# Altium footprint library PQFN.PcbLib: 12 footprints
Each footprint in its own frame and in the unit in brackets; x right, y up, seen from the top. Pads: shape width x height; smd on the part's side, far side on the other; paste and mask are expansions set on the pad; w line width, h text height; cw(c..) or ccw(c..) is an arc to the next point about the centre after c.
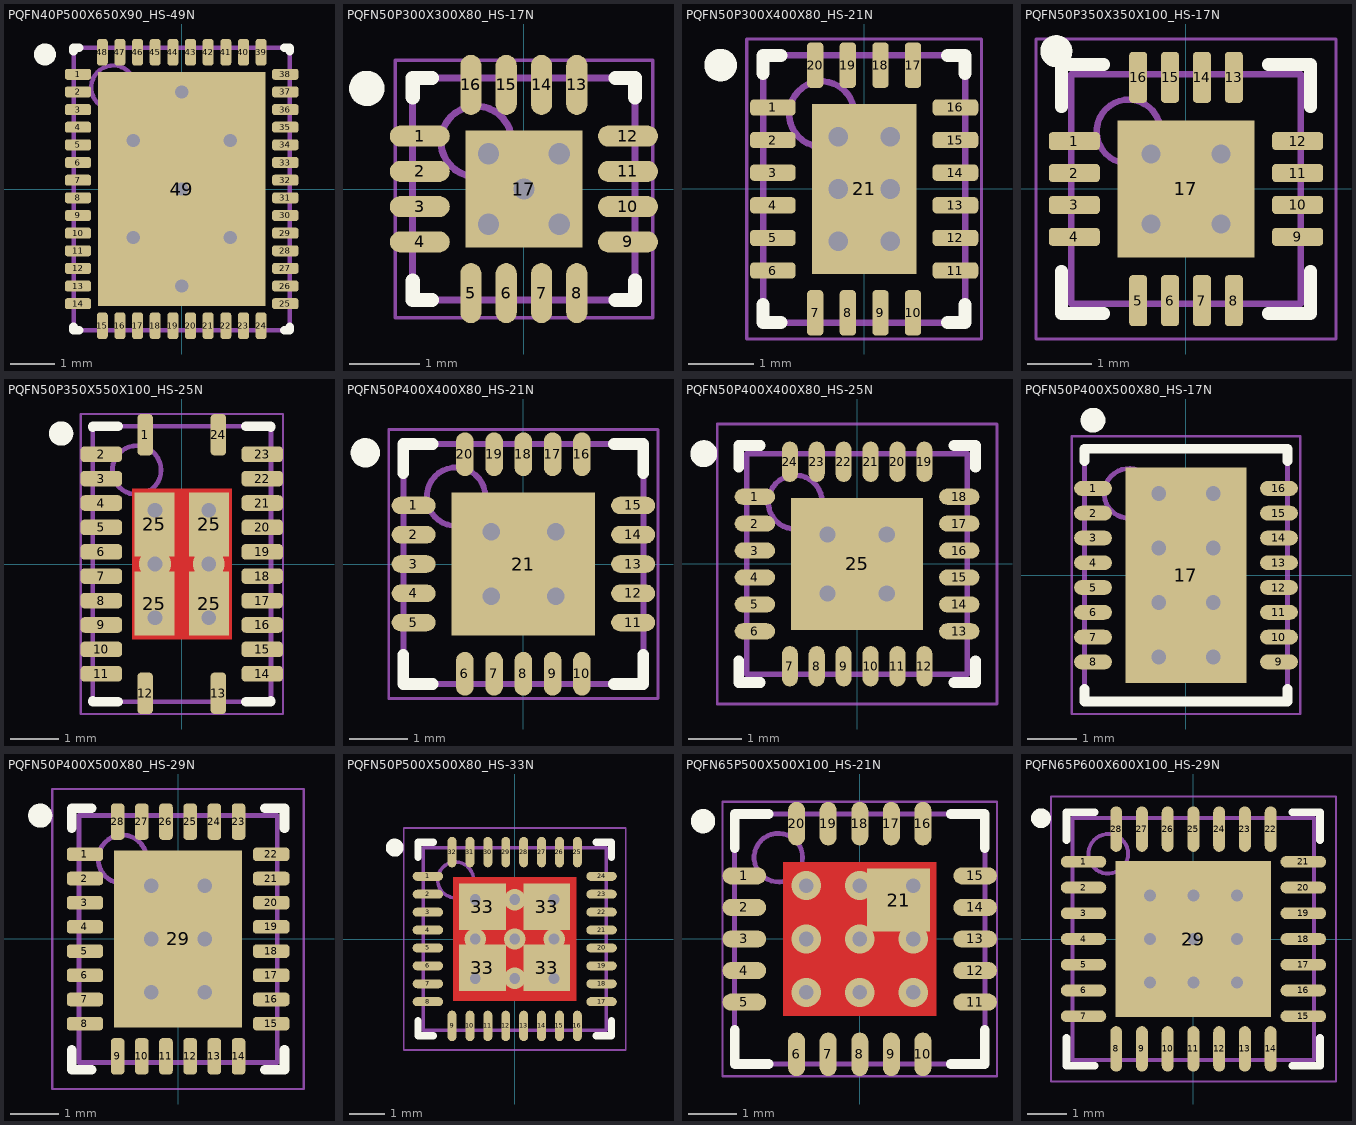
[diagram p0: the footprints below, top view; thin cyan lines are the x and y axes]

## PQFN40P500X650X90_HS-49N [mm] "PQFN, 48-Leads, Body 5,00x6,50mm, Pitch 0,40mm, Thermal Pad 3,80x5,30mm, IPC Medium Density"
height 0.9
pads (49):
  rrect50% 0.6x0.25 smd: 1(-2.35,2.6) 2(-2.35,2.2) 3(-2.35,1.8) 4(-2.35,1.4) 5(-2.35,1) 6(-2.35,0.6) 7(-2.35,0.2) 8(-2.35,-0.2) 9(-2.35,-0.6) 10(-2.35,-1) 11(-2.35,-1.4) 12(-2.35,-1.8) 13(-2.35,-2.2) 14(-2.35,-2.6) 25(2.35,-2.6) 26(2.35,-2.2) 27(2.35,-1.8) 28(2.35,-1.4) 29(2.35,-1) 30(2.35,-0.6) 31(2.35,-0.2) 32(2.35,0.2) 33(2.35,0.6) 34(2.35,1) 35(2.35,1.4) 36(2.35,1.8) 37(2.35,2.2) 38(2.35,2.6)
  rrect50% 0.25x0.6 smd: 15(-1.8,-3.1) 16(-1.4,-3.1) 17(-1,-3.1) 18(-0.6,-3.1) 19(-0.2,-3.1) 20(0.2,-3.1) 21(0.6,-3.1) 22(1,-3.1) 23(1.4,-3.1) 24(1.8,-3.1) 39(1.8,3.1) 40(1.4,3.1) 41(1,3.1) 42(0.6,3.1) 43(0.2,3.1) 44(-0.2,3.1) 45(-0.6,3.1) 46(-1,3.1) 47(-1.4,3.1) 48(-1.8,3.1)
  rect 3.8x5.3 smd: 49(0,0)
via 0,2.2 diameter 0.6 hole 0.3
via -1.1,1.1 diameter 0.6 hole 0.3
via 1.1,1.1 diameter 0.6 hole 0.3
via 0,0 diameter 0.6 hole 0.3
via -1.1,-1.1 diameter 0.6 hole 0.3
via 1.1,-1.1 diameter 0.6 hole 0.3
via 0,-2.2 diameter 0.6 hole 0.3
Top Overlay:
  circle w0.25: c-3.1,3.05 r0.125
  lines w0.2: -2.45,-3.125 -2.45,-3.2 -2.325,-3.2 ; -2.45,3.125 -2.45,3.2 -2.325,3.2 ; 2.325,-3.2 2.45,-3.2 2.45,-3.125 ; 2.325,3.2 2.45,3.2 2.45,3.125
Top Assembly:
  circle w0.1: c-1.55,2.3 r0.5
  lines w0.1: -2.45,-3.2 -2.45,3.2 2.45,3.2 2.45,-3.2 -2.45,-3.2
3D body "PQFN40P500X650X90_HS-49N.step": height 0.9, standoff 0, extent -2.45,-3.2 2.45,3.2

## PQFN50P300X300X80_HS-17N [mm] "PQFN, 16-Leads, Body 3,00x3,00mm, Pitch 0,50mm, Thermal Pad 1,66x1,66mm, IPC Medium Density"
height 0.8
pads (17):
  oval 0.85x0.3 smd: 1(-1.475,0.75) 2(-1.475,0.25) 3(-1.475,-0.25) 4(-1.475,-0.75) 9(1.475,-0.75) 10(1.475,-0.25) 11(1.475,0.25) 12(1.475,0.75)
  oval 0.3x0.85 smd: 5(-0.75,-1.475) 6(-0.25,-1.475) 7(0.25,-1.475) 8(0.75,-1.475) 13(0.75,1.475) 14(0.25,1.475) 15(-0.25,1.475) 16(-0.75,1.475)
  rect 1.66x1.66 smd: 17(0,0)
via 0.5,-0.5 diameter 0.6 hole 0.3
via -0.5,-0.5 diameter 0.6 hole 0.3
via -0.5,0.5 diameter 0.6 hole 0.3
via 0.5,0.5 diameter 0.6 hole 0.3
via 0,0 diameter 0.6 hole 0.3
Top Overlay:
  circle w0.25: c-2.225,1.425 r0.125
  lines w0.2: -1.575,-1.3 -1.575,-1.575 -1.3,-1.575 ; -1.575,1.3 -1.575,1.575 -1.3,1.575 ; 1.3,-1.575 1.575,-1.575 1.575,-1.3 ; 1.3,1.575 1.575,1.575 1.575,1.3
Top Assembly:
  circle w0.1: c-0.675,0.675 r0.5
  lines w0.1: -1.575,-1.575 1.575,-1.575 1.575,1.575 -1.575,1.575 -1.575,-1.575
Mechanical 15:
  lines w0.05: -1.825,-1.825 1.825,-1.825 1.825,1.825 -1.825,1.825 -1.825,-1.825
  lines w0.1: -0.5,0 0.5,0 ; 0,-0.5 0,0.5
3D body "PQFN50P300X300X80_HS-17N.step": height 0.8, standoff 0, extent -1.575,-1.575 1.575,1.575

## PQFN50P300X400X80_HS-21N [mm] "PQFN, 20-Leads, Body 3,00x4,00mm, Pitch 0,50mm, Thermal Pad 1,60x2,60mm, IPC Medium Density"
height 0.8
pads (21):
  rrect50% 0.7x0.25 smd: 1(-1.4,1.25) 2(-1.4,0.75) 3(-1.4,0.25) 4(-1.4,-0.25) 5(-1.4,-0.75) 6(-1.4,-1.25) 11(1.4,-1.25) 12(1.4,-0.75) 13(1.4,-0.25) 14(1.4,0.25) 15(1.4,0.75) 16(1.4,1.25)
  rrect50% 0.25x0.7 smd: 7(-0.75,-1.9) 8(-0.25,-1.9) 9(0.25,-1.9) 10(0.75,-1.9) 17(0.75,1.9) 18(0.25,1.9) 19(-0.25,1.9) 20(-0.75,1.9)
  rect 1.6x2.6 smd: 21(0,0)
via -0.4,-0.8 diameter 0.6 hole 0.3
via 0.4,0 diameter 0.6 hole 0.3
via 0.4,-0.8 diameter 0.6 hole 0.3
via -0.4,0 diameter 0.6 hole 0.3
via -0.4,0.8 diameter 0.6 hole 0.3
via 0.4,0.8 diameter 0.6 hole 0.3
Top Overlay:
  circle w0.25: c-2.2,1.9 r0.125
  lines w0.2: -1.55,-1.775 -1.55,-2.05 -1.275,-2.05 ; -1.55,1.775 -1.55,2.05 -1.275,2.05 ; 1.275,-2.05 1.55,-2.05 1.55,-1.775 ; 1.275,2.05 1.55,2.05 1.55,1.775
Top Assembly:
  circle w0.1: c-0.65,1.15 r0.5
  lines w0.1: -1.55,-2.05 1.55,-2.05 1.55,2.05 -1.55,2.05 -1.55,-2.05
Mechanical 15:
  lines w0.05: -1.8,-2.3 1.8,-2.3 1.8,2.3 -1.8,2.3 -1.8,-2.3
  lines w0.1: -0.5,0 0.5,0 ; 0,-0.5 0,0.5
3D body "User Library-WQFN20.step": height 0.8, standoff 0, extent -1.55,-2.05 1.55,2.05

## PQFN50P350X350X100_HS-17N [mm] "QFN, 16-Leads, Body 3,50x3,50mm, Pitch 0,50mm, Thermal Pad 2,14x2,14mm, IPC Medium Density"
height 1
pads (17):
  rrect40% 0.8x0.28 smd: 1(-1.75,0.75) 2(-1.75,0.25) 3(-1.75,-0.25) 4(-1.75,-0.75) 9(1.75,-0.75) 10(1.75,-0.25) 11(1.75,0.25) 12(1.75,0.75)
  rrect40% 0.28x0.8 smd: 5(-0.75,-1.75) 6(-0.25,-1.75) 7(0.25,-1.75) 8(0.75,-1.75) 13(0.75,1.75) 14(0.25,1.75) 15(-0.25,1.75) 16(-0.75,1.75)
  rect 2.14x2.14 smd: 17(0,0)
via 0.55,-0.55 diameter 0.6 hole 0.3
via -0.55,-0.55 diameter 0.6 hole 0.3
via 0.55,0.55 diameter 0.6 hole 0.3
via -0.55,0.55 diameter 0.6 hole 0.3
Top Overlay:
  circle w0.25: c-2.032,2.159 r0.125
  lines w0.2: -1.95,-1.29 -1.95,-1.95 -1.29,-1.95 ; -1.95,1.29 -1.95,1.95 -1.29,1.95 ; 1.29,-1.95 1.95,-1.95 1.95,-1.29 ; 1.29,1.95 1.95,1.95 1.95,1.29
Top Assembly:
  circle w0.1: c-0.9,0.9 r0.5
  lines w0.1: -1.8,-1.8 1.8,-1.8 1.8,1.8 -1.8,1.8 -1.8,-1.8
Mechanical 15:
  lines w0.05: -2.35,-2.35 2.35,-2.35 2.35,2.35 -2.35,2.35 -2.35,-2.35
  lines w0.1: -0.5,0 0.5,0 ; 0,-0.5 0,0.5
3D body "QFN50P350X350X100_HS-17N.step": height 1, standoff 0, extent -1.801,-1.801 1.801,1.801

## PQFN50P350X550X100_HS-25N [mm] "PQFN, 24-Leads, Body 3,50x5,50mm, Pitch 1,50mm/0,50mm, Thermal Pad 2,05x3,10mm, IPC Medium Density"
height 1
pads (28):
  rrect50% 0.32x0.85 smd: 1(-0.75,2.65) 12(-0.75,-2.65) 13(0.75,-2.65) 24(0.75,2.65)
  rrect50% 0.85x0.32 smd: 2(-1.65,2.25) 3(-1.65,1.75) 4(-1.65,1.25) 5(-1.65,0.75) 6(-1.65,0.25) 7(-1.65,-0.25) 8(-1.65,-0.75) 9(-1.65,-1.25) 10(-1.65,-1.75) 11(-1.65,-2.25) 14(1.65,-2.25) 15(1.65,-1.75) 16(1.65,-1.25) 17(1.65,-0.75) 18(1.65,-0.25) 19(1.65,0.25) 20(1.65,0.75) 21(1.65,1.25) 22(1.65,1.75) 23(1.65,2.25)
  rect 0.82x1.32 smd: 25(-0.56,-0.81) 25(-0.56,0.81) 25(0.56,-0.81) 25(0.56,0.81)
via 0.55,-1.1 diameter 0.65 hole 0.3
via -0.55,-1.1 diameter 0.65 hole 0.3
via 0.55,0 diameter 0.65 hole 0.3
via -0.55,0 diameter 0.65 hole 0.3
via 0.55,1.1 diameter 0.65 hole 0.3
via -0.55,1.1 diameter 0.65 hole 0.3
Top Layer:
  rectangle: -1.025,-1.55 1.025,1.55
Top Overlay:
  circle w0.25: c-2.475,2.675 r0.125
  lines w0.2: -1.825,-2.81 -1.825,-2.825 -1.31,-2.825 ; -1.825,2.81 -1.825,2.825 -1.31,2.825 ; 1.31,-2.825 1.825,-2.825 1.825,-2.81 ; 1.31,2.825 1.825,2.825 1.825,2.81
Top Solder:
  rectangle: -1.075,-1.575 1.075,1.575
Top Assembly:
  circle w0.1: c-0.925,1.925 r0.5
  lines w0.1: -1.825,-2.825 1.825,-2.825 1.825,2.825 -1.825,2.825 -1.825,-2.825
Mechanical 15:
  lines w0.05: -2.075,-3.075 2.075,-3.075 2.075,3.075 -2.075,3.075 -2.075,-3.075
  lines w0.1: -0.5,0 0.5,0 ; 0,-0.5 0,0.5
3D body "PQFN50P350X550X100_HS-25N.step": height 1, standoff 0, extent -1.825,-2.825 1.825,2.825

## PQFN50P400X400X80_HS-21N [mm] "PQFN, 20-Leads, Body 4,00x4,00mm, Pitch 0,50mm, Thermal Pad 2,45x2,45mm, IPC Medium Density"
height 0.8
pads (21):
  oval 0.75x0.3 smd: 1(-1.875,1) 2(-1.875,0.5) 3(-1.875,0) 4(-1.875,-0.5) 5(-1.875,-1) 11(1.875,-1) 12(1.875,-0.5) 13(1.875,0) 14(1.875,0.5) 15(1.875,1)
  oval 0.3x0.75 smd: 6(-1,-1.875) 7(-0.5,-1.875) 8(0,-1.875) 9(0.5,-1.875) 10(1,-1.875) 16(1,1.875) 17(0.5,1.875) 18(0,1.875) 19(-0.5,1.875) 20(-1,1.875)
  rect 2.45x2.45 smd: 21(0,0)
via 0.55,-0.55 diameter 0.6 hole 0.3
via -0.55,-0.55 diameter 0.6 hole 0.3
via 0.55,0.55 diameter 0.6 hole 0.3
via -0.55,0.55 diameter 0.6 hole 0.3
Top Overlay:
  circle w0.25: c-2.7,1.9 r0.125
  lines w0.2: -2.05,-1.55 -2.05,-2.05 -1.55,-2.05 ; -2.05,1.55 -2.05,2.05 -1.55,2.05 ; 1.55,-2.05 2.05,-2.05 2.05,-1.55 ; 1.55,2.05 2.05,2.05 2.05,1.55
Top Assembly:
  circle w0.1: c-1.15,1.15 r0.5
  lines w0.1: -2.05,-2.05 2.05,-2.05 2.05,2.05 -2.05,2.05 -2.05,-2.05
Mechanical 15:
  lines w0.05: -2.3,-2.3 2.3,-2.3 2.3,2.3 -2.3,2.3 -2.3,-2.3
  lines w0.1: -0.5,0 0.5,0 ; 0,-0.5 0,0.5
3D body "PQFN50P400X400X80_HS-21N.step": height 0.8, standoff 0, extent -2.05,-2.05 2.05,2.05

## PQFN50P400X400X80_HS-25N [mm] "QFN, 24-Leads, Body 4,00x4,00mm, Pitch 0,50mm, Thermal Pad 2,45x2,45mm, IPC Medium Density"
height 0.8
pads (25):
  oval 0.75x0.3 smd: 1(-1.9,1.25) 2(-1.9,0.75) 3(-1.9,0.25) 4(-1.9,-0.25) 5(-1.9,-0.75) 6(-1.9,-1.25) 13(1.9,-1.25) 14(1.9,-0.75) 15(1.9,-0.25) 16(1.9,0.25) 17(1.9,0.75) 18(1.9,1.25)
  oval 0.3x0.75 smd: 7(-1.25,-1.9) 8(-0.75,-1.9) 9(-0.25,-1.9) 10(0.25,-1.9) 11(0.75,-1.9) 12(1.25,-1.9) 19(1.25,1.9) 20(0.75,1.9) 21(0.25,1.9) 22(-0.25,1.9) 23(-0.75,1.9) 24(-1.25,1.9)
  rect 2.45x2.45 smd: 25(0,0)
via -0.55,0.55 diameter 0.6 hole 0.3
via 0.55,0.55 diameter 0.6 hole 0.3
via -0.55,-0.55 diameter 0.6 hole 0.3
via 0.55,-0.55 diameter 0.6 hole 0.3
Top Overlay:
  circle w0.25: c-2.85,2.05 r0.125
  lines w0.2: -2.2,-1.8 -2.2,-2.2 -1.8,-2.2 ; -2.2,1.8 -2.2,2.2 -1.8,2.2 ; 1.8,-2.2 2.2,-2.2 2.2,-1.8 ; 1.8,2.2 2.2,2.2 2.2,1.8
Top Assembly:
  circle w0.1: c-1.15,1.15 r0.5
  lines w0.1: -2.05,-2.05 -2.05,2.05 2.05,2.05 2.05,-2.05 -2.05,-2.05
Mechanical 15:
  lines w0.05: -2.6,-2.6 -2.6,2.6 2.6,2.6 2.6,-2.6 -2.6,-2.6
  lines w0.1: -0.5,0 0.5,0 ; 0,-0.5 0,0.5
3D body "QFN50P400X400X80_HS-25N.step": height 0.8, standoff 0, extent -2.06,-2.06 2.06,2.06

## PQFN50P400X500X80_HS-17N [mm] "PQFN, 16-Leads, Body 4,00x5,00mm, Pitch 0,50mm, Thermal Pad 2,44x4,34mm, IPC Medium Density"
height 0.8
pads (17):
  oval 0.76x0.3 smd: 1(-1.875,1.75) 2(-1.875,1.25) 3(-1.875,0.75) 4(-1.875,0.25) 5(-1.875,-0.25) 6(-1.875,-0.75) 7(-1.875,-1.25) 8(-1.875,-1.75) 9(1.875,-1.75) 10(1.875,-1.25) 11(1.875,-0.75) 12(1.875,-0.25) 13(1.875,0.25) 14(1.875,0.75) 15(1.875,1.25) 16(1.875,1.75)
  rect 2.44x4.34 smd: 17(0,0)
via 0.55,-1.65 diameter 0.6 hole 0.3
via -0.55,-1.65 diameter 0.6 hole 0.3
via 0.55,-0.55 diameter 0.6 hole 0.3
via -0.55,-0.55 diameter 0.6 hole 0.3
via 0.55,0.55 diameter 0.6 hole 0.3
via -0.55,0.55 diameter 0.6 hole 0.3
via 0.55,1.65 diameter 0.6 hole 0.3
via -0.55,1.65 diameter 0.6 hole 0.3
Top Overlay:
  circle w0.25: c-1.875,3.125 r0.125
  lines w0.2: -2.05,-2.3 -2.05,-2.55 0.3,-2.55 2.05,-2.55 2.05,-2.3 ; -2.05,2.3 -2.05,2.55 0.275,2.55 ; 0.3,2.55 2.05,2.55 2.05,2.3
Top Assembly:
  circle w0.1: c-1.15,1.65 r0.5
  lines w0.1: -2.05,-2.55 -2.05,2.55 2.05,2.55 2.05,-2.55 -2.05,-2.55
Mechanical 15:
  lines w0.05: -2.3,-2.8 2.3,-2.8 2.3,2.8 -2.3,2.8 -2.3,-2.8
  lines w0.1: -0.5,0 0.5,0 ; 0,-0.5 0,0.5
3D body "PQFN50P400X500X80_HS-17N.step": height 0.8, standoff 0, extent -2.05,-2.55 2.05,2.55

## PQFN50P400X500X80_HS-29N [mm] "QFN, 28-Leads, Body 4,00x5,00mm, Pitch 0,50mm, Thermal Pad 2,65x3,65mm, IPC Medium Density"
height 0.8
pads (29):
  rrect50% 0.75x0.28 smd: 1(-1.925,1.75) 2(-1.925,1.25) 3(-1.925,0.75) 4(-1.925,0.25) 5(-1.925,-0.25) 6(-1.925,-0.75) 7(-1.925,-1.25) 8(-1.925,-1.75) 15(1.925,-1.75) 16(1.925,-1.25) 17(1.925,-0.75) 18(1.925,-0.25) 19(1.925,0.25) 20(1.925,0.75) 21(1.925,1.25) 22(1.925,1.75)
  rrect50% 0.28x0.75 smd: 9(-1.25,-2.425) 10(-0.75,-2.425) 11(-0.25,-2.425) 12(0.25,-2.425) 13(0.75,-2.425) 14(1.25,-2.425) 23(1.25,2.425) 24(0.75,2.425) 25(0.25,2.425) 26(-0.25,2.425) 27(-0.75,2.425) 28(-1.25,2.425)
  rect 2.65x3.65 smd: 29(0,0)
via 0.55,-1.1 diameter 0.6 hole 0.3
via -0.55,-1.1 diameter 0.6 hole 0.3
via 0.55,0 diameter 0.6 hole 0.3
via -0.55,0 diameter 0.6 hole 0.3
via 0.55,1.1 diameter 0.6 hole 0.3
via -0.55,1.1 diameter 0.6 hole 0.3
Top Overlay:
  circle w0.25: c-2.85,2.55 r0.125
  lines w0.2: -2.2,-2.29 -2.2,-2.7 -1.79,-2.7 ; -2.2,2.29 -2.2,2.7 -1.79,2.7 ; 1.79,-2.7 2.2,-2.7 2.2,-2.29 ; 1.79,2.7 2.2,2.7 2.2,2.29
Top Assembly:
  circle w0.1: c-1.15,1.65 r0.5
  lines w0.1: -2.05,-2.55 -2.05,2.55 2.05,2.55 2.05,-2.55 -2.05,-2.55
Mechanical 15:
  lines w0.05: -2.6,-3.1 2.6,-3.1 2.6,3.1 -2.6,3.1 -2.6,-3.1
  lines w0.1: -0.5,0 0.5,0 ; 0,-0.5 0,0.5
3D body "User Library-28-QFN.step": height 0.7, standoff -0.05, extent -2.05,-2.55 2.05,2.55

## PQFN50P500X500X80_HS-33N [mm] "QFN, 32-Leads, Body 5,00x5,00mm, Pitch 0,50mm, Thermal Pad 3,45x3,45mm, IPC Medium Density"
height 0.8
pads (36):
  oval 0.85x0.25 smd: 1(-2.425,1.75) 2(-2.425,1.25) 3(-2.425,0.75) 4(-2.425,0.25) 5(-2.425,-0.25) 6(-2.425,-0.75) 7(-2.425,-1.25) 8(-2.425,-1.75) 17(2.425,-1.75) 18(2.425,-1.25) 19(2.425,-0.75) 20(2.425,-0.25) 21(2.425,0.25) 22(2.425,0.75) 23(2.425,1.25) 24(2.425,1.75)
  oval 0.25x0.85 smd: 9(-1.75,-2.425) 10(-1.25,-2.425) 11(-0.75,-2.425) 12(-0.25,-2.425) 13(0.25,-2.425) 14(0.75,-2.425) 15(1.25,-2.425) 16(1.75,-2.425) 25(1.75,2.425) 26(1.25,2.425) 27(0.75,2.425) 28(0.25,2.425) 29(-0.25,2.425) 30(-0.75,2.425) 31(-1.25,2.425) 32(-1.75,2.425)
  rect 1.3x1.3 smd: 33(-0.9,-0.8) 33(-0.9,0.9) 33(0.9,-0.8) 33(0.9,0.9)
via 1.1,-1.1 diameter 0.6 hole 0.3
via 0,-1.1 diameter 0.6 hole 0.3
via -1.1,-1.1 diameter 0.6 hole 0.3
via 1.1,0 diameter 0.6 hole 0.3
via 0,0 diameter 0.6 hole 0.3
via -1.1,0 diameter 0.6 hole 0.3
via 1.1,1.1 diameter 0.6 hole 0.3
via 0,1.1 diameter 0.6 hole 0.3
via -1.1,1.1 diameter 0.6 hole 0.3
Top Layer:
  rectangle: -1.725,-1.725 1.725,1.725
Top Overlay:
  circle w0.25: c-3.35,2.55 r0.125
  lines w0.2: -2.7,-2.275 -2.7,-2.7 -2.275,-2.7 ; -2.7,2.275 -2.7,2.7 -2.275,2.7 ; 2.275,-2.7 2.7,-2.7 2.7,-2.275 ; 2.275,2.7 2.7,2.7 2.7,2.275
Top Solder:
  rectangle: 2.075,-1.9 2.8,1.65
  region: 1.75,2.05 1.75,2.775 -1.8,2.775 -1.8,2.05
  region: -2.075,1.75 -2.8,1.75 -2.8,-1.8 -2.075,-1.8
  region: -1.75,-2.05 -1.75,-2.775 1.8,-2.775 1.8,-2.05
Top Assembly:
  circle w0.1: c-1.65,1.65 r0.5
  lines w0.1: -2.55,-2.55 2.55,-2.55 2.55,2.55 -2.55,2.55 -2.55,-2.55
Mechanical 15:
  lines w0.05: -3.1,-3.1 3.1,-3.1 3.1,3.1 -3.1,3.1 -3.1,-3.1
  lines w0.1: -0.5,0 0.5,0 ; 0,-0.5 0,0.5
3D body "QFN50P500X500X80_HS-33N.step": height 0.8, standoff 0, extent -2.56,-2.56 2.56,2.56

## PQFN65P500X500X100_HS-21N [mm] "PQFN, 20-Leads, Body 5,00x5,00mm, Pitch 0,65mm, Thermal Pad 3,15x3,15mm, IPC Medium Density"
height 1
pads (21):
  oval 0.9x0.35 smd: 1(-2.375,1.3) 2(-2.375,0.65) 3(-2.375,0) 4(-2.375,-0.65) 5(-2.375,-1.3) 11(2.375,-1.3) 12(2.375,-0.65) 13(2.375,0) 14(2.375,0.65) 15(2.375,1.3)
  oval 0.35x0.9 smd: 6(-1.3,-2.375) 7(-0.65,-2.375) 8(0,-2.375) 9(0.65,-2.375) 10(1.3,-2.375) 16(1.3,2.375) 17(0.65,2.375) 18(0,2.375) 19(-0.65,2.375) 20(-1.3,2.375)
  rect 1.3x1.3 smd: 21(0.8,0.8)
via 1.1,-1.1 diameter 0.6 hole 0.3
via 0,-1.1 diameter 0.6 hole 0.3
via -1.1,-1.1 diameter 0.6 hole 0.3
via 1.1,0 diameter 0.6 hole 0.3
via -1.1,0 diameter 0.6 hole 0.3
via 1.1,1.1 diameter 0.6 hole 0.3
via 0,1.1 diameter 0.6 hole 0.3
via -1.1,1.1 diameter 0.6 hole 0.3
via 0,0 diameter 0.6 hole 0.3
Top Layer:
  region: -1.575,1.575 -1.575,-1.575 1.575,-1.575 1.575,1.575
Top Overlay:
  circle w0.25: c-3.225,2.425 r0.125
  lines w0.2: -2.575,-1.875 -2.575,-2.575 -1.875,-2.575 ; -2.575,1.875 -2.575,2.575 -1.875,2.575 ; 1.875,-2.575 2.575,-2.575 2.575,-1.875 ; 1.875,2.575 2.575,2.575 2.575,1.875
Top Paste:
  rectangle: -1.475,0.15 -0.175,1.45
  rectangle: 0.15,0.15 1.45,1.45
  rectangle: 0.15,-1.45 1.45,-0.15
  rectangle: -1.475,-1.45 -0.175,-0.15
Top Solder:
  rectangle: -1.675,-1.675 1.675,1.675
Top Assembly:
  circle w0.1: c-1.675,1.675 r0.5
  lines w0.1: -2.575,-2.575 2.575,-2.575 2.575,2.575 -2.575,2.575 -2.575,-2.575
Mechanical 15:
  lines w0.05: -2.825,-2.825 2.825,-2.825 2.825,2.825 -2.825,2.825 -2.825,-2.825
  lines w0.1: -0.5,0 0.5,0 ; 0,-0.5 0,0.5
3D body "PQFN65P500X500X100_HS-21N.step": height 1, standoff 0, extent -2.575,-2.575 2.575,2.575

## PQFN65P600X600X100_HS-29N [mm] "QFN, 28-Leads, Body 6,00x6,00mm, Pitch 0,65mm, Thermal Pad 3,93x3,93mm, IPC Medium Density"
height 1
pads (29):
  oval 1.15x0.3 smd: 1(-2.775,1.95) 2(-2.775,1.3) 3(-2.775,0.65) 4(-2.775,0) 5(-2.775,-0.65) 6(-2.775,-1.3) 7(-2.775,-1.95) 15(2.775,-1.95) 16(2.775,-1.3) 17(2.775,-0.65) 18(2.775,0) 19(2.775,0.65) 20(2.775,1.3) 21(2.775,1.95)
  oval 0.3x1.15 smd: 8(-1.95,-2.775) 9(-1.3,-2.775) 10(-0.65,-2.775) 11(0,-2.775) 12(0.65,-2.775) 13(1.3,-2.775) 14(1.95,-2.775) 22(1.95,2.775) 23(1.3,2.775) 24(0.65,2.775) 25(0,2.775) 26(-0.65,2.775) 27(-1.3,2.775) 28(-1.95,2.775)
  rect 3.93x3.93 smd: 29(0,0)
via -1.1,1.1 diameter 0.6 hole 0.3
via 0,1.1 diameter 0.6 hole 0.3
via 1.1,1.1 diameter 0.6 hole 0.3
via -1.1,0 diameter 0.6 hole 0.3
via 0,0 diameter 0.6 hole 0.3
via 1.1,0 diameter 0.6 hole 0.3
via -1.1,-1.1 diameter 0.6 hole 0.3
via 0,-1.1 diameter 0.6 hole 0.3
via 1.1,-1.1 diameter 0.6 hole 0.3
Top Overlay:
  circle w0.25: c-3.85,3.05 r0.125
  lines w0.2: -3.2,-2.5 -3.2,-3.2 -2.5,-3.2 ; -3.2,2.5 -3.2,3.2 -2.5,3.2 ; 2.5,-3.2 3.2,-3.2 3.2,-2.5 ; 2.5,3.2 3.2,3.2 3.2,2.5
Top Assembly:
  circle w0.1: c-2.15,2.15 r0.5
  lines w0.1: -3.05,-3.05 -3.05,3.05 3.05,3.05 3.05,-3.05 -3.05,-3.05
Mechanical 15:
  lines w0.05: -3.6,-3.6 -3.6,3.6 3.6,3.6 3.6,-3.6 -3.6,-3.6
  lines w0.1: -0.5,0 0.5,0 ; 0,-0.5 0,0.5
3D body "QFN65P600X600X100_HS-29N.step": height 1, standoff 0, extent -3.1,-3.1 3.1,3.1